# Altium schematic symbol library Schematic_Amplifiers.SchLib: 7 symbols
Pins are listed as number, name and electrical type; pins without a type are passive.

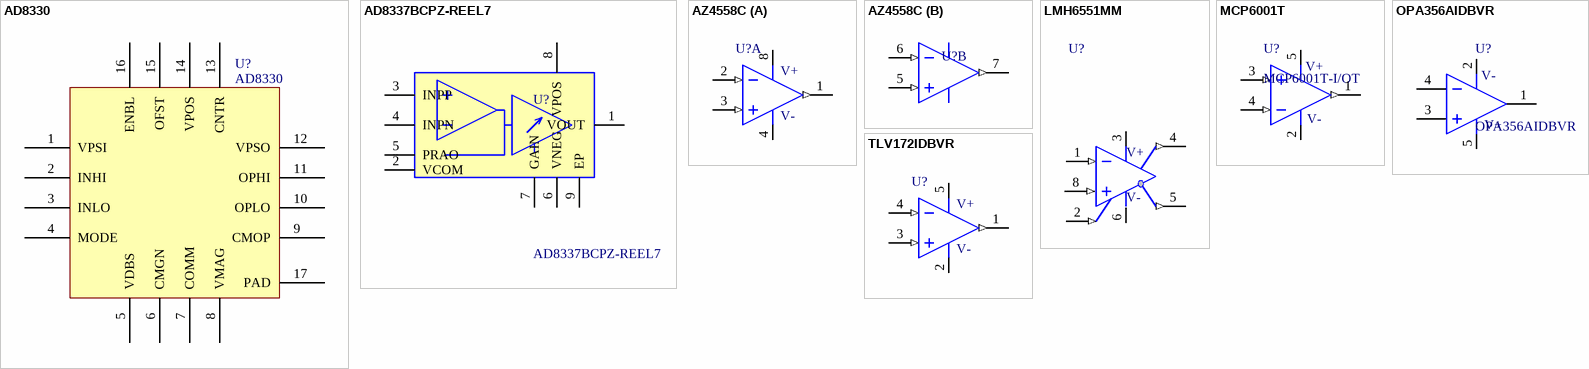
[diagram p0: symbols AD8330 to TLV172IDBVR]

## AD8330
designator U?
Analog Devices AD8330ACPZ-R7, Variable Gain Amplifier; Max Supply Voltage: 6V; Min Supply Voltage: 2.7V; Input Bias Current: 100nA; Input Offset Voltage (Vos): 1mV; Number of Circuits: 1; Operating Supply Current: 20mA; Power Dissipation: 1.67W; Common Mode Rejection Ratio: 55dB; Bandwidth: 150MHz; Slew Rate: 1500V/µs; Gain: 50dB; Input Resistance: 1.2kR; Supplier 1: Digi-Key; Manufacturer: Analog Devices; Manufacturer Part Number: AD8330ACPZ-R7; RoHS: Yes; Category: Amplifiers - Op Amps, Buffer, Instrumentation; Stock 1: 1330; Pricing 1: 1=10.97000, 10=9.91200, 25=9.45040, 100=7.83700, 250=7.14552, 500=6.68450 (USD); Mount: Surface Mount; Case/Package: LFCSP EP; Number of Pins: 16; Contact Plating: Tin,Matte; Min Operating Temperature: -40°C; Max Operating Temperature: 85°C; Number of Elements: 1; Number of Amplifiers: 1; Packaging: Tape and Reel; Package Quantity: 1500; -3db Bandwidth: 150MHz; Number of Channels: 1; Operating Supply Voltage: 6V; Gain Bandwidth Product: 150MHz; Radiation Hardening: No; REACH SVHC: No SVHC; Lead Free: Contains Lead; ComponentLink1URL: https://datasheet.ciiva.com/1794/ad8330-1794898.pdf?src-supplier=Digi-Key; ComponentLink1Description: https://datasheet.ciiva.com/1794/ad8330-1794898.pdf?src-supplier=Digi-Key; ComponentLink2URL: https://datasheet.ciiva.com/1794/ad8330-1794899.pdf?src-supplier=Digi-Key; ComponentLink2Description: https://datasheet.ciiva.com/1794/ad8330-1794899.pdf?src-supplier=Digi-Key; ComponentLink3URL: https://datasheet.ciiva.com/1794/ad8330-1794900.pdf?src-supplier=Digi-Key; ComponentLink3Description: https://datasheet.ciiva.com/1794/ad8330-1794900.pdf?src-supplier=Digi-Key; ComponentLink4URL: https://datasheet.ciiva.com/2977/ad8330-2977245.pdf?src-supplier=Avnet; ComponentLink4Description: https://datasheet.ciiva.com/2977/ad8330-2977245.pdf?src-supplier=Avnet; ComponentLink5URL: https://datasheet.ciiva.com/17371/ad8330-17371789.pdf?src-supplier=Avnet+Europe; ComponentLink5Description: https://datasheet.ciiva.com/17371/ad8330-17371789.pdf?src-supplier=Avnet+Europe; ComponentLink6URL: https://datasheet.ciiva.com/48705/001249139-da-01-en-ic-amp-vga-15-ad8330acpz-r7-lfcsp-16-adi-48705979.pdf?src-supplier=Conrad; ComponentLink6Description: https://datasheet.ciiva.com/48705/001249139-da-01-en-ic-amp-vga-15-ad8330acpz-r7-lfcsp-16-adi-48705979.pdf?src-supplier=Conrad; Supplier Part Number 1: AD8330ACPZ-R7CT-ND
footprint QFN50P300X300X90-17N
pins: 1 VPSI, 2 INHI, 3 INLO, 4 MODE, 5 VDBS, 6 CMGN, 7 COMM, 8 VMAG, 9 CMOP, 10 OPLO, 11 OPHI, 12 VPSO, 13 CNTR, 14 VPOS, 15 OFST, 16 ENBL, 17 PAD

## AD8337BCPZ-REEL7
designator U?
Special Purpose Amplifiers IC Gen Purpose Hi Speed VGA; Manufacturer_Name: Analog Devices; Geometry.Height: 0.85mm; Mouser Part Number: 584-AD8337BCPZ-R7; Mouser Price/Stock: https://www.mouser.com/Search/Refine.aspx?Keyword=584-AD8337BCPZ-R7; RS Part Number: *; RS Price/Stock: *; Datasheet Link: https://www.analog.com/media/en/technical-documentation/data-sheets/AD8337.pdf; Supplier 1: Digi-Key; Supplier Part Number 1: AD8337BCPZ-REEL7CT-ND; Manufacturer_Part_Number: AD8337BCPZ-REEL7
footprint DFN50P300X80_HS-9N (SON, 8-Leads, Body 3.00x3.00mm, Pitch 0.50mm, Thermal Pad 1.45x1.45mm, IPC Medium Density)
pins: 1 VOUT, 2 VCOM, 3 INPP, 4 INPN, 5 PRAO, 6 VNEG, 7 GAIN, 8 VPOS, 9 EP

## AZ4558C
designator U?  (value not drawn)
Supplier 1: Digi-Key; Supplier Part Number 1: AZ4558CMTR-G1DICT-ND
footprint SOIC127P600X124-8L (SOIC, 8-Leads, Body 4.90x3.80mm, Pitch 1.27mm, IPC High Density)
part A pins: 1 OUT (out), 2 IN- (in), 3 IN+ (in), 4 V- (power), 8 V+ (power)
part B pins: 5 IN+ (in), 6 IN- (in), 7 OUT (out)

## LMH6551MM
designator U?  (value not drawn)
Differential, High Speed Op Amp 8-VSSOP -40 to 85; MP: LMH6551MM/NOPB; MF: Texas Instruments; Availability: Unavailable; Package: MSOP-8 Texas Instruments; Price: None; SnapEDA_Link: https://www.snapeda.com/parts/LMH6551MM/NOPB/Texas%20Instruments/view-part/?ref=snap; Value: *; Supplier 1: Digi-Key; Supplier Part Number 1: LMH6551MM/NOPBDKR-ND
footprint TSOP65P490X110-8L (TSSOP, 8-Leads, Body 3.00x3.00mm, Pitch 0.65mm, IPC High Density)
pins: 1 -IN (in), 2 VCM (in), 3 V+ (power), 4 +OUT (out), 5 -OUT (out), 6 V- (power), 8 +IN (in)

## MCP6001T
designator U?, comment MCP6001T-I/OT
IC OPAMP GP 1MHZ RRO SOT23-5; Manufacturer: Microchip; Voltage Gain: 112dB; Min Supply Voltage: 1.8V; Max Supply Voltage: 6V; Common Mode Rejection Ratio: 60dB; Slew Rate: 0.6V/µs; Number of Channels: 1; Input Bias Current: 1pA; Input Offset Voltage (Vos): 4.5mV; Nominal Supply Current: 100uA; Operating Supply Voltage: 5.5V; Output Current: 23mA; Power Supply Rejection Ratio (PSRR): 86dB; Supplier 1: Digi-Key; Manufacturer Part Number: MCP6001T-I/OT; RoHS: Yes; Category: Amplifiers - Op Amps, Buffer, Instrumentation; Stock 1: 36797; Pricing 1: 1=0.24000, 25=0.20000 (USD); Mount: Surface Mount; Case/Package: SOT-23; Number of Pins: 5; Contact Plating: Tin,Matte; Min Operating Temperature: -40°C; Max Operating Temperature: 85°C; Gain Bandwidth Product: 1MHz; Packaging: Tape and Reel; Package Quantity: 1; Bandwidth: 1MHz; Unity Gain Bandwidth Product: 1MHz; Number of Circuits: 1; Number of Elements: 1; Number of Amplifiers: 1; Output Current per Channel: 23mA; Operating Supply Current: 100uA; Voltage: 6V; Length: 3.1mm; Height: 1.3mm; Width: 1.8mm; Radiation Hardening: No; REACH SVHC: No SVHC; Lead Free: Lead Free; ComponentLink1URL: https://datasheet.ciiva.com/1793/21733j-1793040.pdf?src-supplier=Digi-Key; ComponentLink1Description: https://datasheet.ciiva.com/1793/21733j-1793040.pdf?src-supplier=Digi-Key; ComponentLink2URL: https://datasheet.ciiva.com/16199/filehandler-aspxddocname-en011705-16199408.pdf?src-supplier=Future+Electronics; ComponentLink2Description: https://datasheet.ciiva.com/16199/filehandler-aspxddocname-en011705-16199408.pdf?src-supplier=Future+Electronics; ComponentLink3URL: https://datasheet.ciiva.com/26344/651487-da-01-en-ic-opamp-mcp6001t-i-ot-sot-23-5-mcp-26344500.pdf?src-supplier=Conrad; ComponentLink3Description: https://datasheet.ciiva.com/26344/651487-da-01-en-ic-opamp-mcp6001t-i-ot-sot-23-5-mcp-26344500.pdf?src-supplier=Conrad; ComponentLink4URL: https://datasheet.ciiva.com/1793/21733j-1793041.pdf?src-supplier=Digi-Key; ComponentLink4Description: https://datasheet.ciiva.com/1793/21733j-1793041.pdf?src-supplier=Digi-Key; ComponentLink5URL: https://datasheet.ciiva.com/1793/21733j-1793042.pdf?src-supplier=Digi-Key; ComponentLink5Description: https://datasheet.ciiva.com/1793/21733j-1793042.pdf?src-supplier=Digi-Key; ComponentLink6URL: https://datasheet.ciiva.com/16796/jp011705-16796421.pdf?src-supplier=Avnet+Europe; ComponentLink6Description: https://datasheet.ciiva.com/16796/jp011705-16796421.pdf?src-supplier=Avnet+Europe; ComponentLink7URL: https://datasheet.ciiva.com/8078/524878-8078826.pdf?src-supplier=Element14; ComponentLink7Description: https://datasheet.ciiva.com/8078/524878-8078826.pdf?src-supplier=Element14; ComponentLink8URL: https://datasheet.ciiva.com/14544/70045422-14544795.pdf?src-supplier=Allied+Electronics; ComponentLink8Description: https://datasheet.ciiva.com/14544/70045422-14544795.pdf?src-supplier=Allied+Electronics; ComponentLink9URL: https://datasheet.ciiva.com/8078/524878-8078829.pdf?src-supplier=Element14; ComponentLink9Description: https://datasheet.ciiva.com/8078/524878-8078829.pdf?src-supplier=Element14; ComponentLink10URL: https://datasheet.ciiva.com/14151/mcp6001-2-4-eng-tds-14151487.pdf?src-supplier=Distrelec; ComponentLink10Description: https://datasheet.ciiva.com/14151/mcp6001-2-4-eng-tds-14151487.pdf?src-supplier=Distrelec
footprint SOT95P285X130-5L (SOT23, 5-Leads, Body 3.00x2.85mm, Pitch 0.95mm, IPC High Density)
pins: 1 VOUT (out), 2 V- (power), 3 IN+ (in), 4 IN- (in), 5 VDD (power)
text: V+

## OPA356AIDBVR
designator U?
200MHz, CMOS OPERATIONAL AMPLIFIER; Manufacturer_Name: Texas Instruments; Manufacturer_Part_Number: OPA356AIDBVTG4; Geometry.Height: 1.45mm; Mouser Part Number: 595-OPA356AIDBVTG4; Mouser Price/Stock: https://www.mouser.com/Search/Refine.aspx?Keyword=595-OPA356AIDBVTG4; RS Part Number: *; RS Price/Stock: *; Datasheet Link: http://www.ti.com/lit/ds/symlink/opa356.pdf; Supplier 1: Digi-Key; Supplier Part Number 1: 296-32191-1-ND
footprint SOT95P285X130-5L (SOT23, 5-Leads, Body 3.00x2.85mm, Pitch 0.95mm, IPC High Density)
pins: 1 OUT, 2 V-, 3 +IN, 4 -IN, 5 V+

## TLV172IDBVR
designator U?  (value not drawn)
IC OPAMP GP 1 CIRCUIT SOT23-5; Supplier 1: Digi-Key; Supplier Part Number 1: 296-45069-1-ND
footprint SOT95P285X130-5L (SOT23, 5-Leads, Body 3.00x2.85mm, Pitch 0.95mm, IPC High Density)
pins: 1 OUT (out), 2 V- (power), 3 IN+ (in), 4 IN- (in), 5 V+ (power)